# Altium schematic symbol library Schlib1.SchLib: 43 symbols (part 1 of 2)
Pins are listed as number, name and electrical type; pins without a type are passive.

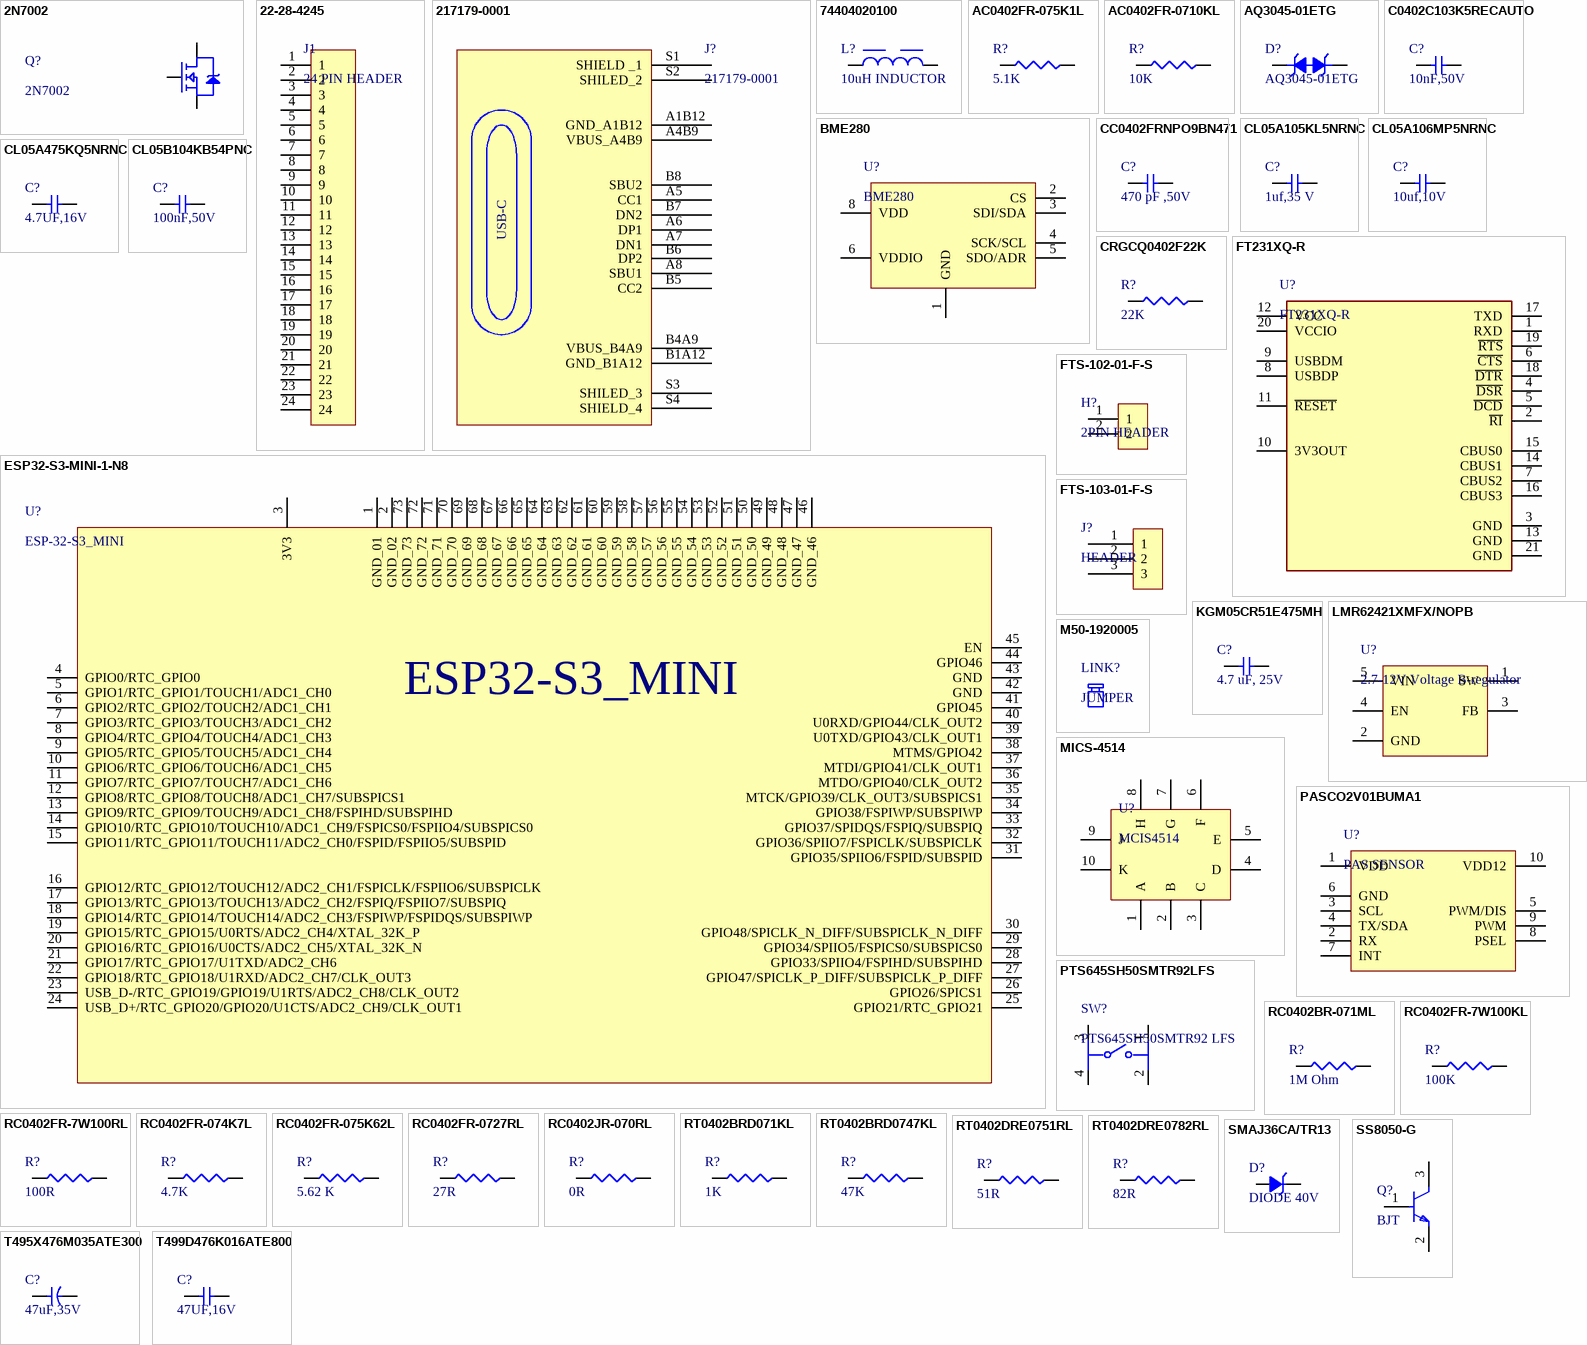
[diagram p0: symbols 2N7002 to T499D476K016ATE800]

## 2N7002
designator Q?
MOSFET SOT23 N 60V 5OHM 150C; Manufacturer: ON Semiconductor / Fairchild; Nominal Vgs: 2.1V; Input Capacitance: 50pF; Max Power Dissipation: 200mW; Rds On Max: 7.5R; Continuous Drain Current (ID): 115mA; On-State Resistance: 5.3R; Gate to Source Voltage (Vgs): 20V; Number of Channels: 1; Turn-Off Delay Time: 20ns; Supplier: Arrow Electronics; Supplier Part Number: 2N7002; Manufacturer Part Number: 2N7002; RoHS: Yes; Category: MOSFETs; Stock: 3060000; Pricing: 3000=0.104, 9000=0.0951, 24000=0.0698, 45000=0.0675, 99000=0.0359 (USD); Mounting Technology: Surface Mount; Case/Package: SOT-23; Pins: 3; Min Operating Temperature: -55°C; Max Operating Temperature: 150°C; Packaging: Tape and Reel; Package Quantity: 1; Dual Supply Voltage: 60V; Drain to Source Voltage (Vdss): 60V; Threshold Voltage: 2.1V; Voltage Rating (DC): 60V; Current Rating: 115mA; Current: 115mA; Voltage: 60V; Series: -; Drain-source On Resistance-Max: 7.5R; Turn-On Delay Time: 20ns; Length: 2.92mm; Width: 1.3mm; Height: 0.93mm; Reach SVHC Compliant: No; Lead Free: Lead Free; RoHS Compliant: Yes; ComponentLink1URL: https://datasheet.ciiva.com/931/2n7000-931762.pdf?src-supplier=Digikey; ComponentLink1Description: https://datasheet.ciiva.com/931/2n7000-931762.pdf?src-supplier=Digikey; ComponentLink2URL: https://datasheet.ciiva.com/931/2n7000-931764.pdf?src-supplier=Digikey; ComponentLink2Description: https://datasheet.ciiva.com/931/2n7000-931764.pdf?src-supplier=Digikey; ComponentLink3URL: https://datasheet.ciiva.com/1188/660093-1188359.pdf?src-supplier=Element14; ComponentLink3Description: https://datasheet.ciiva.com/1188/660093-1188359.pdf?src-supplier=Element14; ComponentLink4URL: https://datasheet.ciiva.com/1188/660093-1188361.pdf?src-supplier=Element14; ComponentLink4Description: https://datasheet.ciiva.com/1188/660093-1188361.pdf?src-supplier=Element14; ComponentLink5URL: https://datasheet.ciiva.com/22655/660093-22655230.pdf?src-supplier=Element14; ComponentLink5Description: https://datasheet.ciiva.com/22655/660093-22655230.pdf?src-supplier=Element14; ComponentLink6URL: https://datasheet.ciiva.com/1254/660093-1254452.pdf?src-supplier=Newark; ComponentLink6Description: https://datasheet.ciiva.com/1254/660093-1254452.pdf?src-supplier=Newark; ComponentLink7URL: https://datasheet.ciiva.com/17007/2n7002-17007243.pdf?src-supplier=Future+Electronics; ComponentLink7Description: https://datasheet.ciiva.com/17007/2n7002-17007243.pdf?src-supplier=Future+Electronics; LCSC PART Number: C22446827
footprint SOT95P240X111-3N
pins: 1, 2, 3

## 22-28-4245
designator J1, comment 24 PIN HEADER
CONN HEADER VERT 24POS 2.54MM; Manufacturer: Molex; Plating: Tin; Current Rating: 4A; Gender: Male; Number of Circuits: 24; Supplier: Mouser; Supplier Part Number: 538-22-28-4245; Manufacturer Part Number: 22-28-4245; RoHS: No; Category: Headers and Wire Housings; Stock: 182; Pricing: 1=1.21, 10=1.14, 50=1.14, 100=1.06, 1000=0.709, 10000=0.709 (USD); Mounting Technology: Through Hole; Contact Material: Brass; Contact Plating: Gold; Housing Color: Black; Number of Contacts: 24; Number of Positions: 24; Number of Rows: 1; Orientation: Vertical; Packaging: Bulk; Termination: Solder; Pitch: 2.54mm; Lead Free: Lead Free; ComponentLink1URL: https://datasheet.ciiva.com/6814/022284363-sd-6814049.pdf?src-supplier=Digikey; ComponentLink1Description: https://datasheet.ciiva.com/6814/022284363-sd-6814049.pdf?src-supplier=Digikey; ComponentLink2URL: https://datasheet.ciiva.com/10075/0022284245-pcb-headers-10075617.pdf?src-supplier=Avnet; ComponentLink2Description: https://datasheet.ciiva.com/10075/0022284245-pcb-headers-10075617.pdf?src-supplier=Avnet; ComponentLink3URL: https://datasheet.ciiva.com/1433/1597854-1433759.pdf?src-supplier=Element14; ComponentLink3Description: https://datasheet.ciiva.com/1433/1597854-1433759.pdf?src-supplier=Element14; LCSC PART Number: C7145888
footprint hdr_1x24
pins: 1, 2, 3, 4, 5, 6, 7, 8, 9, 10, 11, 12, 13, 14, 15, 16, 17, 18, 19, 20, 21, 22, 23, 24

## 217179-0001
designator J?
CONN RCP USB2.0 TYP C 24P SMD RA; Manufacturer: Molex; Current Rating: 1.25A; Gender: Receptacle; Number of Contacts: 16; Voltage Rating: 30V; Supplier: Mouser; Supplier Part Number: 538-217179-0001; Manufacturer Part Number: 217179-0001; RoHS: No; Category: Connectors; Stock: 26428; Pricing: 1=0.79, 10=0.56, 50=0.56, 100=0.513, 1000=0.513, 1200=0.436, 2400=0.41, 4800=0.399, 10000=0.399, 24000=0.39 (USD); Contact Material: Nickel,Gold; Min Operating Temperature: -40°C; Max Operating Temperature: 85°C; USB Standard: USB 2.0; Height: 3.36mm; LCSC PART Number: C3197684
footprint FP-2171790001-MFG
pins: A1B12 GND_A1B12, A4B9 VBUS_A4B9, A5 CC1, A6 DP1, A7 DN1, A8 SBU1, B1A12 GND_B1A12, B4A9 VBUS_B4A9, B5 CC2, B6 DP2, B7 DN2, B8 SBU2, S1 SHIELD _1, S2 SHILED_2, S3 SHILED_3, S4 SHIELD_4
text: USB-C

## 74404020100
designator L?, comment 10uH INDUCTOR
FIXED IND 10UH 500MA 850MOHM SMD; Manufacturer: Wurth Electronics; Manufacturer Part Number: 74404020100; Core Material: Ferrite; Tolerance: 20%; Saturation Current: 600mA; Shielding: Shielded; DC Resistance (DCR): 850mR; Self Resonant Frequency: 39MHz; Test Frequency: 1MHz; Würth Elektronik: 73D1808; Supplier: Digikey; Supplier Part Number: 732-10745-1-ND; RoHS: Yes; Category: Fixed Inductors; Stock: 3411; Pricing: 1=0.54, 50=0.451, 100=0.3429, 1000=0.2979 (USD); Mounting Technology: Surface Mount; Case/Package: Nonstandard; Min Operating Temperature: -40°C; Max Operating Temperature: 125°C; Packaging: Cut Tape; Value: 10uH; Current Rating: 500mA; Series: WE-LQS; Inductance Tolerance: 20%; Length: 2mm; Width: 1.6mm; Height: 1mm; RoHS Compliant: Yes; ComponentLink1URL: http://www.farnell.com/datasheets/2277209.pdf?src-supplier=Farnell; ComponentLink1Description: http://www.farnell.com/datasheets/2277209.pdf?src-supplier=Farnell; ComponentLink2URL: http://www.farnell.com/datasheets/2277209.pdf?src-supplier=Element14; ComponentLink2Description: http://www.farnell.com/datasheets/2277209.pdf?src-supplier=Element14; ComponentLink3URL: https://katalog.we-online.de/pbs/datasheet/74404020100.pdf?src-supplier=Digikey; ComponentLink3Description: https://katalog.we-online.de/pbs/datasheet/74404020100.pdf?src-supplier=Digikey; ComponentLink4URL: http://www.farnell.com/datasheets/2277209.pdf?src-supplier=Newark; ComponentLink4Description: http://www.farnell.com/datasheets/2277209.pdf?src-supplier=Newark
footprint WE-LQS_2010 (SMD Power Inductor, 2-Leads, body 2x1.6mm)
pins: 1, 2

## AC0402FR-075K1L
designator R?, comment 5.1K
RES SMD 5.1K OHM 1% 1/16W 0402; Manufacturer: Yageo; Manufacturer Part Number: AC0402FR-075K1L; Value: 5.1kR; Power Rating: 63mW; Temperature Coefficient: 100ppm/°C; Voltage Rating: 50V; Supplier: Digikey; Supplier Part Number: YAG3503CT-ND; RoHS: Yes; Category: Chip SMD Resistors; Stock: 32155; Pricing: 1=0.1, 10=0.009, 100=0.0071, 1000=0.00612, 2500=0.0051, 5000=0.00407, 10000=0.00204 (USD); Mounting Technology: Surface Mount; Case/Package: 0402; Case Code (Metric): 1005; Case Code (Imperial): 0402; Min Operating Temperature: -55°C; Max Operating Temperature: 155°C; Tolerance: 1%; Packaging: Cut Tape; Number of Terminations: 2; Max Power Dissipation: 63mW; Features: Moisture Resistant,Automotive AEC-Q200; Series: AC; Length: 0.039inch; Width: 0.02inch; Height: 0.015inch; Lead Free: Lead Free; RoHS Compliant: Yes; ComponentLink1URL: http://www.yageo.com/NewPortal/yageodocoutput?fileName=/pdf/R-Chip/PYu-AC_51_RoHS_L_6.pdf&src-supplier=Digikey; ComponentLink1Description: http://www.yageo.com/NewPortal/yageodocoutput?fileName=/pdf/R-Chip/PYu-AC_51_RoHS_L_6.pdf&src-supplier=Digikey; ComponentLink2URL: http://www.yageo.com/documents/recent/PYu-AC_51_RoHS_L_2_revised.pdf?src-supplier=Future+Electronics; ComponentLink2Description: http://www.yageo.com/documents/recent/PYu-AC_51_RoHS_L_2_revised.pdf?src-supplier=Future+Electronics; ComponentLink3URL: https://datasheet.octopart.com/AC0402FR-075K1L-Yageo-datasheet-166720450.pdf?src-supplier=Future+Electronics; ComponentLink3Description: https://datasheet.octopart.com/AC0402FR-075K1L-Yageo-datasheet-166720450.pdf?src-supplier=Future+Electronics; LCSC PART Number: C144745
footprint RESC1005X37N
pins: 1, 2

## AC0402FR-0710KL
designator R?, comment 10K
AC0402FR-0710KL; Manufacturer: Yageo; Value: 10kR; Tolerance: 1%; Power Rating: 62.5mW; Voltage Rating: 50V; Temperature Coefficient: 100ppm/°C; Max Power Dissipation: 63mW; Supplier: Future Electronics; Supplier Part Number: 2025338; Manufacturer Part Number: AC0402FR-0710KL; RoHS: Yes; Category: Chip SMD Resistors; Stock: 16805000; Pricing: 10000=0.0011, 40000=0.0011, 150000=0.001, 400000=0.001, 1000000=0.001 (USD); Case/Package: 0402; Case Code (Imperial): 0402; Case Code (Metric): 1005; Min Operating Temperature: -55°C; Max Operating Temperature: 155°C; Packaging: Tape and Reel; Termination: SMD/SMT; Number of Terminations: 2; Features: Moisture Resistant,Automotive AEC-Q200; Series: AC; Length: 0.039inch; Width: 0.02inch; Height: 0.015inch; Lead Free: Lead Free; RoHS Compliant: Yes; ComponentLink1URL: https://datasheet.ciiva.com/12656/pyu-ac-51-rohs-l-2-12656634.pdf?src-supplier=Mouser; ComponentLink1Description: https://datasheet.ciiva.com/12656/pyu-ac-51-rohs-l-2-12656634.pdf?src-supplier=Mouser; LCSC PART Number: C144807
footprint RESC1005X37N
pins: 1, 2

## AQ3045-01ETG
designator D?
TVS DIODE 5.3VWM 12VC SOD882; Manufacturer: Littelfuse; Number of Bidirectional Channels: 1; Reverse Standoff Voltage: 5.3V; Min Breakdown Voltage: 6.8V; Peak Pulse Current: 3A; Peak Pulse Power: 40W; Power Line Protection: No; Diode Type: ZENER; Leakage Current: 100nA; Supplier: Digikey; Supplier Part Number: F9321CT-ND; Manufacturer Part Number: AQ3045-01ETG; RoHS: Yes; Category: TVS Diodes; Stock: 12123; Pricing: 1=0.46, 10=0.302, 100=0.141, 500=0.134, 1000=0.127, 2000=0.1255, 5000=0.124 (USD); Mounting Technology: Surface Mount; Min Operating Temperature: -55°C; Max Operating Temperature: 150°C; Packaging: Cut Tape; Series: Automotive, AEC-Q101, AQ3045, SPA®; Number of Channels: 1; Operating Supply Voltage: 5.3V; RoHS Compliant: Yes; ComponentLink1URL: http://www.littelfuse.com/~/media/electronics/datasheets/tvs_diode_arrays/littelfuse_tvs_diode_array_aq3045_datasheet.pdf.pdf?src-supplier=Digikey; ComponentLink1Description: http://www.littelfuse.com/~/media/electronics/datasheets/tvs_diode_arrays/littelfuse_tvs_diode_array_aq3045_datasheet.pdf.pdf?src-supplier=Digikey; ComponentLink2URL: https://www.littelfuse.com/~/media/electronics/datasheets/tvs_diode_arrays/littelfuse_tvs_diode_array_aq3045_datasheet.pdf.pdf?src-supplier=Digikey; ComponentLink2Description: https://www.littelfuse.com/~/media/electronics/datasheets/tvs_diode_arrays/littelfuse_tvs_diode_array_aq3045_datasheet.pdf.pdf?src-supplier=Digikey; ComponentLink3URL: https://datasheet.octopart.com/AQ3045-01ETG-Littelfuse-datasheet-101609968.pdf?src-supplier=Farnell; ComponentLink3Description: https://datasheet.octopart.com/AQ3045-01ETG-Littelfuse-datasheet-101609968.pdf?src-supplier=Farnell; ComponentLink4URL: https://datasheet.octopart.com/AQ3045-01ETG-Littelfuse-datasheet-140480283.pdf?src-supplier=Future+Electronics; ComponentLink4Description: https://datasheet.octopart.com/AQ3045-01ETG-Littelfuse-datasheet-140480283.pdf?src-supplier=Future+Electronics; LCSC PART Number: C3710326
footprint DIODFN100X60X50-2N
pins: 1, 2

## BME280
designator U?
SENSOR PRESSURE HUMIDITY TEMP; Manufacturer: Bosch Tools; Supplier: Digikey; Supplier Part Number: 828-1063-1-ND; Manufacturer Part Number: BME280; RoHS: No; Category: Linear ICs; Stock: 15872; Pricing: 1=4.17, 5=3.734, 10=3.573, 25=3.3808, 50=3.2492, 100=3.1285, 500=2.88584, 1000=2.79544, 10000=2.5454 (USD); Case/Package: LGA; Pins: 8; Min Operating Temperature: -40°C; Max Operating Temperature: 85°C; Lead Free: Lead Free; LCSC PART Number: C92489
footprint PSON65P250X250X100-8N
pins: 1 GND, 2 CS, 3 SDI/SDA, 4 SCK/SCL, 5 SDO/ADR, 6 VDDIO, 8 VDD

## C0402C103K5RECAUTO
designator C?, comment 10nF,50V
CAP CER 0402 10NF 50V X7R 10%; Manufacturer: KEMET; Manufacturer Part Number: C0402C103K5RECAUTO; Supplier: Arrow Electronics; Supplier Part Number: C0402C103K5RECAUTO; RoHS: Yes; Category: Ceramic Capacitors; Stock: 2267; Pricing: 1=0.078, 10=0.058, 25=0.054, 100=0.0297, 250=0.0294, 500=0.0291, 1000=0.0175 (USD); Mounting Technology: Surface Mount; Case/Package: 0402; Min Operating Temperature: -55°C; Max Operating Temperature: 125°C; Packaging: Tape and Reel; Value: 10nF; Tolerance: 10%; Voltage Rating: 50V; Series: ESD SMD Auto X7R; Dielectric: X7R; Voltage Rating (DC): 50V; Ratings: AEC-Q200; RoHS Compliant: Yes; ComponentLink1URL: https://datasheet.octopart.com/C0402C103K5RECAUTO-KEMET-datasheet-149521617.pdf?src-supplier=Farnell; ComponentLink1Description: https://datasheet.octopart.com/C0402C103K5RECAUTO-KEMET-datasheet-149521617.pdf?src-supplier=Farnell; ComponentLink2URL: https://api.kemet.com/component-edge/download/datasheet/C0402C103K5RECAUTO.pdf?src-supplier=Digikey; ComponentLink2Description: https://api.kemet.com/component-edge/download/datasheet/C0402C103K5RECAUTO.pdf?src-supplier=Digikey; ComponentLink3URL: https://datasheet.octopart.com/C0402C103K5RECAUTO-KEMET-datasheet-175422754.pdf?src-supplier=Newark; ComponentLink3Description: https://datasheet.octopart.com/C0402C103K5RECAUTO-KEMET-datasheet-175422754.pdf?src-supplier=Newark; ComponentLink4URL: http://www.farnell.com/datasheets/2723677.pdf?src-supplier=Newark; ComponentLink4Description: http://www.farnell.com/datasheets/2723677.pdf?src-supplier=Newark; ComponentLink5URL: http://www.farnell.com/datasheets/2723677.pdf?src-supplier=Element14; ComponentLink5Description: http://www.farnell.com/datasheets/2723677.pdf?src-supplier=Element14; ComponentLink6URL: https://datasheet.octopart.com/C0402C103K5RECAUTO-KEMET-datasheet-153706760.pdf?src-supplier=Electro+Sonic; ComponentLink6Description: https://datasheet.octopart.com/C0402C103K5RECAUTO-KEMET-datasheet-153706760.pdf?src-supplier=Electro+Sonic; LCSC PART Number: C1513170
footprint CAPC1005X55N
pins: 1, 2  2 

## CC0402FRNPO9BN471
designator C?, comment 470 pF ,50V
CAP CER 470PF 50V C0G/NPO 0402; Manufacturer: Yageo; Manufacturer Part Number: CC0402FRNPO9BN471; Supplier: Future Electronics; Supplier Part Number: 5114427; RoHS: Yes; Category: Ceramic Capacitors; Stock: 10000; Pricing: 10000=0.015, 20000=0.0148, 30000=0.0146, 50000=0.0145, 100000=0.0141 (USD); RoHS Compliant: Yes; ComponentLink1URL: https://datasheet.octopart.com/CC0402FRNPO9BN471-Yageo-datasheet-151948684.pdf?src-supplier=Farnell; ComponentLink1Description: https://datasheet.octopart.com/CC0402FRNPO9BN471-Yageo-datasheet-151948684.pdf?src-supplier=Farnell; ComponentLink2URL: https://datasheet.octopart.com/CC0402FRNPO9BN471-Yageo-datasheet-151948684.pdf?src-supplier=Newark; ComponentLink2Description: https://datasheet.octopart.com/CC0402FRNPO9BN471-Yageo-datasheet-151948684.pdf?src-supplier=Newark; ComponentLink3URL: https://datasheet.octopart.com/CC0402FRNPO9BN471-Yageo-datasheet-137875056.pdf?src-supplier=Future+Electronics; ComponentLink3Description: https://datasheet.octopart.com/CC0402FRNPO9BN471-Yageo-datasheet-137875056.pdf?src-supplier=Future+Electronics; LCSC PART Number: C513551
footprint CAPC1005X55N
pins: 1, 2  2 

## CL05A105KL5NRNC
designator C?, comment 1uf,35 V
CL05A105KL5NRNC; Manufacturer: Samsung; Material: 4241ConductorMaterial; Voltage Rating: 35V; Tolerance: 10%; Supplier: Digikey; Supplier Part Number: 1276-6796-1-ND; Manufacturer Part Number: CL05A105KL5NRNC; RoHS: Yes; Category: Ceramic Capacitors; Stock: 194971; Pricing: 1=0.27, 10=0.17, 100=0.1027, 1000=0.07807, 2500=0.06853, 5000=0.0679, 10000=0.05902, 20000=0.05548, 30000=0.05372, 50000=0.05194, 70000=0.04872, 100000=0.04608 (USD); Mounting Technology: Surface Mount; Case/Package: 0402; Case Code (Metric): 1005; Case Code (Imperial): 0402; Min Operating Temperature: -55°C; Max Operating Temperature: 85°C; Packaging: Cut Tape; Value: 1uF; Series: CL; Length: 0.039inch; Width: 0.02inch; Height: 550um; Thickness: 0.022inch; RoHS Compliant: Yes; ComponentLink1URL: http://www.samsungsem.com/kr/support/product-search/mlcc/CL05A105KL5NRNC.jsp?src-supplier=Digikey; ComponentLink1Description: http://www.samsungsem.com/kr/support/product-search/mlcc/CL05A105KL5NRNC.jsp?src-supplier=Digikey; ComponentLink2URL: https://datasheet.octopart.com/CL05A105KL5NRNC-Samsung-datasheet-8326407.pdf?src-supplier=TME; ComponentLink2Description: https://datasheet.octopart.com/CL05A105KL5NRNC-Samsung-datasheet-8326407.pdf?src-supplier=TME; LCSC PART Number: C307413
footprint CAPC1005X55N
pins: 1, 2  2 

## CL05A106MP5NRNC
designator C?, comment 10uf,10V
CL05A106MP5NRNC; Manufacturer: Samsung; Material: Ceramic; Tolerance: 20%; Supplier: Avnet; Supplier Part Number: CL05A106MP5NRNC; Manufacturer Part Number: CL05A106MP5NRNC; RoHS: Yes; Category: Ceramic Capacitors; Pricing: 100000=0.0442, 120000=0.04397, 220000=0.04375, 500000=0.04352, 1000000=0.0433 (USD); Case/Package: 0402; Min Operating Temperature: -55°C; Max Operating Temperature: 85°C; Value: 10uF; Voltage Rating: 10V; Height: 550um; RoHS Compliant: Yes; LCSC PART Number: C315248
footprint CAPC1005X55N
pins: 1, 2  2 

## CL05A475KQ5NRNC
designator C?, comment 4.7UF,16V
CAP CER 4.7UF 6.3V X5R 0402; Manufacturer: Samsung; Manufacturer Part Number: CL05A475KQ5NRNC; Material: Ceramic; Tolerance: 10%; Supplier: Avnet; Supplier Part Number: CL05A475KQ5NRNC; RoHS: Yes; Category: Ceramic Capacitors; Stock: 1403600; Pricing: 1=0.00646 (USD); Mounting Technology: Surface Mount; Case/Package: 0402; Case Code (Metric): 1005; Case Code (Imperial): 0402; Min Operating Temperature: -55°C; Max Operating Temperature: 85°C; Package Quantity: 1; Packaging: Tape and Reel; Value: 4.7uF; Voltage Rating: 6.3V; Dielectric: X5R; Series: CL; Construction: Flat; Length: 1mm; Width: 0.02inch; Height: 0.5mm; Thickness: 0.022inch; Depth: 0.5mm; Radiation Hardening: No; Lead Free: Lead Free; RoHS Compliant: Yes; ComponentLink1URL: https://datasheet.ciiva.com/25793/cl05a475kq5nrnc-25793634.pdf?src-supplier=Digikey; ComponentLink1Description: https://datasheet.ciiva.com/25793/cl05a475kq5nrnc-25793634.pdf?src-supplier=Digikey; ComponentLink2URL: https://datasheet.ciiva.com/26838/getdatasheetpartid-353228-26838196.pdf?src-supplier=Verical; ComponentLink2Description: https://datasheet.ciiva.com/26838/getdatasheetpartid-353228-26838196.pdf?src-supplier=Verical; LCSC PART Number: C2932473
footprint CAPC1005X55N
pins: 1, 2  2 

## CL05B104KB54PNC
designator C?, comment 100nF,50V
CL05B104KB54PNC; Manufacturer: Samsung; Material: 4241ConductorMaterial; Tolerance: 10%; Supplier: Avnet; Supplier Part Number: CL05B104KB54PNC; Manufacturer Part Number: CL05B104KB54PNC; RoHS: Yes; Category: Ceramic Capacitors; Pricing: 10000=0.00428, 20000=0.00423, 40000=0.00747, 60000=0.00411, 80000=0.00406 (USD); Min Operating Temperature: -55°C; Max Operating Temperature: 125°C; Value: 100nF; Voltage Rating: 50V; Height: 550um; RoHS Compliant: Yes; ComponentLink1URL: https://datasheet.octopart.com/CL05B104KB54PNC-Samsung-datasheet-8326407.pdf?src-supplier=TME; ComponentLink1Description: https://datasheet.octopart.com/CL05B104KB54PNC-Samsung-datasheet-8326407.pdf?src-supplier=TME; LCSC PART Number: C307331
footprint CAPC1005X55N
pins: 1, 2  2 

## CRGCQ0402F22K
designator R?, comment 22K
RES 22K OHM 1% 1/16W 0402; Manufacturer: TE Connectivity; Manufacturer Part Number: CRGCQ0402F22K; Max Power Dissipation: 63mW; Temperature Coefficient: 100ppm/°C; Value: 22kR; Power Rating: 62.5mW; Voltage Rating: 50V; Supplier: Avnet; Supplier Part Number: 73AC8868; RoHS: Yes; Category: Chip SMD Resistors; Stock: 20000; Pricing: 1=0.049, 25=0.014, 100=0.007, 250=0.006, 1000=0.005 (USD); Case/Package: 0402; Min Operating Temperature: -55°C; Max Operating Temperature: 155°C; Features: Moisture Resistant,Automotive AEC-Q200; Series: CRGCQ; Tolerance: 1%; Number of Terminations: 2; Packaging: Cut Tape; Voltage Rating (DC): 50V; Operating Supply Voltage: 50V; Height: 400um; Ratings: AEC-Q200; RoHS Compliant: Yes; ComponentLink1URL: http://datasheet.octopart.com/CRGCQ0402F22K-TE-Connectivity-datasheet-114679081.pdf?src-supplier=Digikey; ComponentLink1Description: http://datasheet.octopart.com/CRGCQ0402F22K-TE-Connectivity-datasheet-114679081.pdf?src-supplier=Digikey; ComponentLink2URL: https://4donline.ihs.com/images/VipMasterIC/IC/TYEL/TYEL-S-A0004929575/TYEL-S-A0004929575-1.pdf?hkey=52A5661711E402568146F3353EA87419&src-supplier=Farnell; ComponentLink2Description: https://4donline.ihs.com/images/VipMasterIC/IC/TYEL/TYEL-S-A0004929575/TYEL-S-A0004929575-1.pdf?hkey=52A5661711E402568146F3353EA87419&src-supplier=Farnell; ComponentLink3URL: http://datasheet.octopart.com/CRGCQ0402F22K-TE-Connectivity-datasheet-114679081.pdf?src-supplier=Avnet; ComponentLink3Description: http://datasheet.octopart.com/CRGCQ0402F22K-TE-Connectivity-datasheet-114679081.pdf?src-supplier=Avnet; ComponentLink4URL: http://datasheet.octopart.com/CRGCQ0402F22K-TE-Connectivity-datasheet-114679081.pdf?src-supplier=Mouser; ComponentLink4Description: http://datasheet.octopart.com/CRGCQ0402F22K-TE-Connectivity-datasheet-114679081.pdf?src-supplier=Mouser; ComponentLink5URL: http://datasheet.octopart.com/CRGCQ0402F22K-TE-Connectivity-datasheet-114679081.pdf?src-supplier=Onlinecomponents.com; ComponentLink5Description: http://datasheet.octopart.com/CRGCQ0402F22K-TE-Connectivity-datasheet-114679081.pdf?src-supplier=Onlinecomponents.com; ComponentLink6URL: https://4donline.ihs.com/images/VipMasterIC/IC/TYEL/TYEL-S-A0004929575/TYEL-S-A0004929575-1.pdf?hkey=52A5661711E402568146F3353EA87419&src-supplier=Newark; ComponentLink6Description: https://4donline.ihs.com/images/VipMasterIC/IC/TYEL/TYEL-S-A0004929575/TYEL-S-A0004929575-1.pdf?hkey=52A5661711E402568146F3353EA87419&src-supplier=Newark; ComponentLink7URL: http://datasheet.octopart.com/CRGCQ0402F22K-TE-Connectivity-datasheet-114679081.pdf?src-supplier=Newark; ComponentLink7Description: http://datasheet.octopart.com/CRGCQ0402F22K-TE-Connectivity-datasheet-114679081.pdf?src-supplier=Newark; ComponentLink8URL: http://datasheet.octopart.com/CRGCQ0402F22K-TE-Connectivity-datasheet-114679081.pdf?src-supplier=Heilind+Electronics; ComponentLink8Description: http://datasheet.octopart.com/CRGCQ0402F22K-TE-Connectivity-datasheet-114679081.pdf?src-supplier=Heilind+Electronics; ComponentLink9URL: http://datasheet.octopart.com/CRGCQ0402F22K-TE-Connectivity-datasheet-114679081.pdf?src-supplier=Sager+Electronics; ComponentLink9Description: http://datasheet.octopart.com/CRGCQ0402F22K-TE-Connectivity-datasheet-114679081.pdf?src-supplier=Sager+Electronics; ComponentLink10URL: http://datasheet.octopart.com/CRGCQ0402F22K-TE-Connectivity-datasheet-114679081.pdf?src-supplier=Interstate+Connecting+Components; ComponentLink10Description: http://datasheet.octopart.com/CRGCQ0402F22K-TE-Connectivity-datasheet-114679081.pdf?src-supplier=Interstate+Connecting+Components; ComponentLink11URL: http://datasheet.octopart.com/CRGCQ0402F22K-TE-Connectivity-datasheet-114679081.pdf?src-supplier=Electro+Sonic; ComponentLink11Description: http://datasheet.octopart.com/CRGCQ0402F22K-TE-Connectivity-datasheet-114679081.pdf?src-supplier=Electro+Sonic; ComponentLink12URL: https://datasheet.octopart.com/CRGCQ0402F22K-TE-Connectivity-datasheet-114679081.pdf?src-supplier=Master+Electronics; ComponentLink12Description: https://datasheet.octopart.com/CRGCQ0402F22K-TE-Connectivity-datasheet-114679081.pdf?src-supplier=Master+Electronics; ComponentLink13URL: http://datasheet.octopart.com/CRGCQ0402F22K-TE-Connectivity-datasheet-114679081.pdf?src-supplier=TME; ComponentLink13Description: http://datasheet.octopart.com/CRGCQ0402F22K-TE-Connectivity-datasheet-114679081.pdf?src-supplier=TME; LCSC PART Number: C2073567
footprint RESC1005X37N
pins: 1, 2

## ESP32-S3-MINI-1-N8
designator U?, comment ESP-32-S3_MINI
20.5dBm ESP32-S3FN8 Chip 2.4GHz SMD WiFi Modules ROHS; Manufacturer: Espressif Systems; Manufacturer Part Number: ESP32-S3-MINI-1-N8; Supplier: Digikey; Supplier Part Number: 1965-ESP32-S3-MINI-1-N8CT-ND; RoHS: No; Category: LDO; Stock: 12636; Pricing: 1=5.28, 10=4.566, 25=4.3196, 100=3.9802, 250=3.7768, 650=3.58103, 1300=3.44874, 1950=3.37497 (USD); ComponentLink1URL: https://datasheet.octopart.com/ESP32-S3-MINI-1-N8-Espressif-Systems-datasheet-165560562.pdf?src-supplier=TME; ComponentLink1Description: https://datasheet.octopart.com/ESP32-S3-MINI-1-N8-Espressif-Systems-datasheet-165560562.pdf?src-supplier=TME; LCSC PART Number: C2913206
footprint XCVR_ESP32-S3-MINI-1-N8
pins: 1 GND_01, 2 GND_02, 3 3V3, 4 GPIO0/RTC_GPIO0, 5 GPIO1/RTC_GPIO1/TOUCH1/ADC1_CH0, 6 GPIO2/RTC_GPIO2/TOUCH2/ADC1_CH1, 7 GPIO3/RTC_GPIO3/TOUCH3/ADC1_CH2, 8 GPIO4/RTC_GPIO4/TOUCH4/ADC1_CH3, 9 GPIO5/RTC_GPIO5/TOUCH5/ADC1_CH4, 10 GPIO6/RTC_GPIO6/TOUCH6/ADC1_CH5, 11 GPIO7/RTC_GPIO7/TOUCH7/ADC1_CH6, 12 GPIO8/RTC_GPIO8/TOUCH8/ADC1_CH7/SUBSPICS1, 13 GPIO9/RTC_GPIO9/TOUCH9/ADC1_CH8/FSPIHD/SUBSPIHD, 14 GPIO10/RTC_GPIO10/TOUCH10/ADC1_CH9/FSPICS0/FSPIIO4/SUBSPICS0, 15 GPIO11/RTC_GPIO11/TOUCH11/ADC2_CH0/FSPID/FSPIIO5/SUBSPID, 16 GPIO12/RTC_GPIO12/TOUCH12/ADC2_CH1/FSPICLK/FSPIIO6/SUBSPICLK, 17 GPIO13/RTC_GPIO13/TOUCH13/ADC2_CH2/FSPIQ/FSPIIO7/SUBSPIQ, 18 GPIO14/RTC_GPIO14/TOUCH14/ADC2_CH3/FSPIWP/FSPIDQS/SUBSPIWP, 19 GPIO15/RTC_GPIO15/U0RTS/ADC2_CH4/XTAL_32K_P, 20 GPIO16/RTC_GPIO16/U0CTS/ADC2_CH5/XTAL_32K_N, 21 GPIO17/RTC_GPIO17/U1TXD/ADC2_CH6, 22 GPIO18/RTC_GPIO18/U1RXD/ADC2_CH7/CLK_OUT3, 23 USB_D-/RTC_GPIO19/GPIO19/U1RTS/ADC2_CH8/CLK_OUT2, 24 USB_D+/RTC_GPIO20/GPIO20/U1CTS/ADC2_CH9/CLK_OUT1, 25 GPIO21/RTC_GPIO21, 26 GPIO26/SPICS1, 27 GPIO47/SPICLK_P_DIFF/SUBSPICLK_P_DIFF, 28 GPIO33/SPIIO4/FSPIHD/SUBSPIHD, 29 GPIO34/SPIIO5/FSPICS0/SUBSPICS0, 30 GPIO48/SPICLK_N_DIFF/SUBSPICLK_N_DIFF, 31 GPIO35/SPIIO6/FSPID/SUBSPID, 32 GPIO36/SPIIO7/FSPICLK/SUBSPICLK, 33 GPIO37/SPIDQS/FSPIQ/SUBSPIQ, 34 GPIO38/FSPIWP/SUBSPIWP, 35 MTCK/GPIO39/CLK_OUT3/SUBSPICS1, 36 MTDO/GPIO40/CLK_OUT2, 37 MTDI/GPIO41/CLK_OUT1, 38 MTMS/GPIO42, 39 U0TXD/GPIO43/CLK_OUT1, 40 U0RXD/GPIO44/CLK_OUT2, 41 GPIO45, 42 GND, 43 GND, 44 GPIO46, 45 EN, 46 GND_46, 47 GND_47, 48 GND_48, 49 GND_49, 50 GND_50, 51 GND_51, 52 GND_52, 53 GND_53, 54 GND_54, 55 GND_55, 56 GND_56, 57 GND_57, 58 GND_58, 59 GND_59, 60 GND_60, 61 GND_61, 62 GND_62, 63 GND_63, 64 GND_64, 65 GND_65, 66 GND_66, 67 GND_67, 68 GND_68, 69 GND_69, 70 GND_70, 71 GND_71, 72 GND_72, 73 GND_73
text: ESP32-S3_MINI

## FT231XQ-R
designator U?
IC USB SERIAL FULL UART 20QFN; Manufacturer: FTDI; Data Rate: 12Mbps; Number of Channels: 1; Max Supply Voltage: 5.5V; Min Supply Voltage: 2.97V; Interface: UART,USB; Operating Supply Current: 8mA; Supplier: Digikey; Supplier Part Number: 768-1128-1-ND; Manufacturer Part Number: FT231XQ-R; RoHS: Yes; Category: Interface ICs; Stock: 41705; Pricing: 1=2.34, 25=2.27, 100=2.2, 250=2, 500=1.82002, 1000=1.7625, 5000=1.7625 (USD); Mounting Technology: Surface Mount; Case/Package: QFN; Pins: 20; Weight: 0.004339oz; Min Operating Temperature: -40°C; Max Operating Temperature: 85°C; Packaging: Tape and Reel; Series: USBmadeEZ-UART, FT-X, X-Chip; Height: 800um; Lead Free: Lead Free; RoHS Compliant: Yes; ComponentLink1URL: https://datasheet.ciiva.com/1787/ds-ft231x-1787312.pdf?src-supplier=Digikey; ComponentLink1Description: https://datasheet.ciiva.com/1787/ds-ft231x-1787312.pdf?src-supplier=Digikey; ComponentLink2URL: https://datasheet.ciiva.com/30475/0900766b811020d3-30475405.pdf?src-supplier=Rs; ComponentLink2Description: https://datasheet.ciiva.com/30475/0900766b811020d3-30475405.pdf?src-supplier=Rs; ComponentLink3URL: https://datasheet.ciiva.com/4787/ds-ft231x-13571-4787570.pdf?src-supplier=Mouser; ComponentLink3Description: https://datasheet.ciiva.com/4787/ds-ft231x-13571-4787570.pdf?src-supplier=Mouser; ComponentLink4URL: https://datasheet.ciiva.com/1787/ft-x-series-1787313.pdf?src-supplier=Digikey; ComponentLink4Description: https://datasheet.ciiva.com/1787/ft-x-series-1787313.pdf?src-supplier=Digikey; ComponentLink5URL: https://datasheet.ciiva.com/1787/ft-x-series-1787314.pdf?src-supplier=Digikey; ComponentLink5Description: https://datasheet.ciiva.com/1787/ft-x-series-1787314.pdf?src-supplier=Digikey; LCSC PART Number: C132159
footprint FP-QFN-20-IPC_B
pins: 1 RXD, 2 ~{RI}, 3 GND, 4 ~{DSR}, 5 ~{DCD}, 6 ~{CTS}, 7 CBUS2, 8 USBDP, 9 USBDM, 10 3V3OUT, 11 ~{RESET}, 12 VCC, 13 GND, 14 CBUS1, 15 CBUS0, 16 CBUS3, 17 TXD, 18 ~{DTR}, 19 ~{RTS}, 20 VCCIO, 21 GND

## FTS-102-01-F-S
designator H?, comment 2PIN HEADER
CONN HEADER VERT 2POS 1.27MM; Manufacturer: Samtec; Manufacturer Part Number: FTS-102-01-F-S; Number of Contacts: 2; Gender: Male; Supplier: Avnet; Supplier Part Number: FTS-102-01-F-S; RoHS: Yes; Category: Connectors; Stock: 3208; Pricing: 1=0.4802, 10=0.47775, 30=0.3492, 50=0.3474, 100=0.3456 (USD); Mounting Technology: Through Hole; Contact Plating: Gold; Contact Material: Bronze; Contact Shape: Square; Contact Finish - Mating: GOLD; Insulation Material: Polymer; Insulation Color: Black; Min Operating Temperature: -55°C; Max Operating Temperature: 125°C; Number of Rows: 1; Packaging: Bulk; Termination: Solder; Fastening Type: Pull; Series: FTS; Contact Type: Male Pin; Number of Positions: 2; Pitch: 1.27mm; Radiation Hardening: No; RoHS Compliant: Yes; Flammability Rating: UL94 V-0; ComponentLink1URL: http://suddendocs.samtec.com/catalog_english/fts.pdf?src-supplier=Digikey; ComponentLink1Description: http://suddendocs.samtec.com/catalog_english/fts.pdf?src-supplier=Digikey; ComponentLink2URL: http://www.samtec.com/documents/webfiles/pdf/FTS.pdf?src-supplier=Avnet; ComponentLink2Description: http://www.samtec.com/documents/webfiles/pdf/FTS.pdf?src-supplier=Avnet; ComponentLink3URL: https://datasheet.octopart.com/FTS-102-01-F-S-Samtec-datasheet-151470456.pdf?src-supplier=Sager+Electronics; ComponentLink3Description: https://datasheet.octopart.com/FTS-102-01-F-S-Samtec-datasheet-151470456.pdf?src-supplier=Sager+Electronics; ComponentLink4URL: https://datasheet.octopart.com/FTS-102-01-F-S-Samtec-datasheet-118493358.pdf?src-supplier=Electro+Sonic; ComponentLink4Description: https://datasheet.octopart.com/FTS-102-01-F-S-Samtec-datasheet-118493358.pdf?src-supplier=Electro+Sonic; ComponentLink5URL: https://datasheet.octopart.com/FTS-102-01-F-S-Samtec-datasheet-176663378.pdf?src-supplier=Toby+Electronics; ComponentLink5Description: https://datasheet.octopart.com/FTS-102-01-F-S-Samtec-datasheet-176663378.pdf?src-supplier=Toby+Electronics; LCSC PART Number: C6045317
footprint HDR_1X2-1.27MM
pins: 1, 2

## FTS-103-01-F-S
designator J?, comment HEADER
CONN HEADER VERT 3POS 1.27MM; Manufacturer: Samtec; Manufacturer Part Number: FTS-103-01-F-S; Number of Contacts: 3; Gender: Male; Supplier: Digikey; Supplier Part Number: 612-FTS-103-01-F-S-ND; RoHS: Yes; Category: Connectors; Stock: 1896; Pricing: 1=0.73, 50=0.6378, 100=0.5407, 500=0.4491, 1000=0.38362, 2000=0.31431, 5000=0.2478, 10000=0.228 (USD); Mounting Technology: Through Hole; Contact Plating: Gold; Number of Rows: 1; Packaging: Bulk; Termination: Solder; Pitch: 1.27mm; Radiation Hardening: No; RoHS Compliant: Yes; ComponentLink1URL: http://suddendocs.samtec.com/prints/fts-1xx-xx-xx-xx-xx-mkt.pdf?src-supplier=Digikey; ComponentLink1Description: http://suddendocs.samtec.com/prints/fts-1xx-xx-xx-xx-xx-mkt.pdf?src-supplier=Digikey; ComponentLink2URL: http://www.samtec.com/documents/webfiles/pdf/FTS.pdf?src-supplier=Avnet; ComponentLink2Description: http://www.samtec.com/documents/webfiles/pdf/FTS.pdf?src-supplier=Avnet; ComponentLink3URL: https://datasheet.octopart.com/FTS-103-01-F-S-Samtec-datasheet-176663378.pdf?src-supplier=Toby+Electronics; ComponentLink3Description: https://datasheet.octopart.com/FTS-103-01-F-S-Samtec-datasheet-176663378.pdf?src-supplier=Toby+Electronics; ComponentLink4URL: https://datasheet.octopart.com/FTS-103-01-F-S-Samtec-datasheet-151470456.pdf?src-supplier=Sager+Electronics; ComponentLink4Description: https://datasheet.octopart.com/FTS-103-01-F-S-Samtec-datasheet-151470456.pdf?src-supplier=Sager+Electronics; LCSC PART Number: C3333578
footprint HDR_1X3_1.27mm
pins: 1, 2, 3

## KGM05CR51E475MH
designator C?, comment 4.7 uF, 25V
Cap Cer 4.7UF 25V X5R 0402; Manufacturer: Kyocera AVX; Manufacturer Part Number: KGM05CR51E475MH; Supplier: Digikey; Supplier Part Number: 478-KGM05CR51E475MHCT-ND; RoHS: No; Stock: 57965; Pricing: 1=0.26, 10=0.167, 100=0.1145, 1000=0.08368, 2500=0.07509, 5000=0.0696 (USD); LCSC PART Number: C20218024
footprint CAPC1005X55N
pins: 1, 2  2 

## LMR62421XMFX/NOPB
designator U?, comment 2.7-12V Voltage B-regulator
IC REG BST SEPIC ADJ 2.1A SOT23; Manufacturer: TI National Semiconductor; Manufacturer Part Number: LMR62421XMFX/NOPB; Switching Frequency: 1.6MHz; Output Voltage: 24V; Min Input Voltage: 2.7V; Number of Outputs: 1; Max Supply Voltage: 5.5V; Synchronous Rectifier: No; Quiescent Current: 7mA; Topology: Boost,SEPIC; Output Type: Adjustable; Output Configuration: Positive; Number of Channels: 1NUMBER; Supplier: Mouser; Supplier Part Number: 926-LMR62421XMFXNOPB; RoHS: Yes; Category: Voltage Regulators - Switching; Stock: 3949; Pricing: 1=1.29, 10=0.938, 50=0.85, 100=0.753, 1000=0.627, 10000=0.583 (USD); Mounting Technology: Surface Mount; Case/Package: SOT-23-5; Pins: 5; Min Operating Temperature: -40°C; Max Operating Temperature: 125°C; Output Current: 2.1A; Packaging: Tape and Reel; Package Quantity: 3000; Min Output Voltage: 2.7V; Max Output Voltage: 24V; Series: SIMPLE SWITCHER®; Length: 2.9mm; Width: 1.6mm; Height: 1.45mm; Thickness: 1.2mm; Lead Free: Lead Free; RoHS Compliant: Yes; ComponentLink1URL: https://datasheet.ciiva.com/4880/snvs734a-74088-4880547.pdf?src-supplier=Mouser; ComponentLink1Description: https://datasheet.ciiva.com/4880/snvs734a-74088-4880547.pdf?src-supplier=Mouser; LCSC PART Number: C544413
footprint SOT95P280X145-5N
pins: 1 SW, 2 GND, 3 FB, 4 EN, 5 VIN

## M50-1920005
designator LINK?, comment JUMPER
CONN SHUNT 1.27MM RED; Manufacturer: Harwin; Manufacturer Part Number: M50-1920005; Current Rating: 1A; Voltage Rating: 500V; Insulation Resistance: 1R; Number of Positions: 2; Supplier: Digikey; Supplier Part Number: 952-1727-ND; RoHS: Yes; Category: Headers and Wire Housings; Stock: 2193; Pricing: 1=0.33, 10=0.284, 25=0.2664, 50=0.2536, 100=0.2414, 250=0.22628, 500=0.21546, 1000=0.20516, 3000=0.18984 (USD); Color: Red; Contact Material: Copper Alloy; Contact Plating: Gold; Housing Material: PBT; Min Operating Temperature: -40°C; Max Operating Temperature: 105°C; Package Quantity: 1000; Packaging: Bulk; Series: Archer M50; Pitch: 1.27mm; Reach SVHC Compliant: No; Flammability Rating: UL94 V-0; RoHS Compliant: Yes; ComponentLink1URL: https://datasheet.ciiva.com/4573/m50-19x-350826-4573042.pdf?src-supplier=Mouser; ComponentLink1Description: https://datasheet.ciiva.com/4573/m50-19x-350826-4573042.pdf?src-supplier=Mouser; ComponentLink2URL: https://datasheet.ciiva.com/767/m50-19x-767921.pdf?src-supplier=Digikey; ComponentLink2Description: https://datasheet.ciiva.com/767/m50-19x-767921.pdf?src-supplier=Digikey; ComponentLink3URL: https://datasheet.ciiva.com/1456/m50-19x-1456640.pdf?src-supplier=Newark; ComponentLink3Description: https://datasheet.ciiva.com/1456/m50-19x-1456640.pdf?src-supplier=Newark; ComponentLink4URL: https://datasheet.ciiva.com/1412/1836978-1412125.pdf?src-supplier=Element14; ComponentLink4Description: https://datasheet.ciiva.com/1412/1836978-1412125.pdf?src-supplier=Element14; LCSC PART Number: C6985646

## MICS-4514
designator U?, comment MCIS4514
SENSOR CARBON MONOXIDE; Manufacturer: SGX Sensortech; Supplier: Newark; Supplier Part Number: 71AC1526; Manufacturer Part Number: MICS-4514; RoHS: No; Category: Linear ICs; Stock: 9; Pricing: 1=14.88, 5=14.88, 10=14.88, 25=14.88, 50=13.82, 100=12.9, 250=12.9 (USD); Case/Package: QFN; Min Operating Temperature: -30°C; Max Operating Temperature: 85°C; ComponentLink1URL: https://datasheet.octopart.com/MICS-4514-SGX-Sensortech-datasheet-41926419.pdf?src-supplier=SOS+electronic; ComponentLink1Description: https://datasheet.octopart.com/MICS-4514-SGX-Sensortech-datasheet-41926419.pdf?src-supplier=SOS+electronic; ComponentLink2URL: https://datasheet.octopart.com/MICS-4514-SGX-Sensortech-datasheet-99856667.pdf?src-supplier=Component+Distributors+Inc.; ComponentLink2Description: https://datasheet.octopart.com/MICS-4514-SGX-Sensortech-datasheet-99856667.pdf?src-supplier=Component+Distributors+Inc.; ComponentLink3URL: https://datasheet.octopart.com/MICS-4514-SGX-Sensortech-datasheet-41926419.pdf?src-supplier=Master+Electronics; ComponentLink3Description: https://datasheet.octopart.com/MICS-4514-SGX-Sensortech-datasheet-41926419.pdf?src-supplier=Master+Electronics; LCSC PART Number: C3659364
footprint MICS_10-SMD
pins: 1 A, 2 B, 3 C, 4 D, 5 E, 6 F, 7 G, 8 H, 9 J, 10 K

## PASCO2V01BUMA1
designator U?, comment PAS SENSOR
SENSOR CARBON DIOXIDE I2C OUTPUT; Manufacturer: Infineon; Manufacturer Part Number: PASCO2V01BUMA1; Supplier: Mouser; Supplier Part Number: 726-PASCO2V01BUMA1; RoHS: No; Stock: 274; Pricing: 1=27.8, 10=26.67, 50=25.34, 100=24.46, 1000=23.66, 10000=23.66 (USD); LCSC PART Number: C6352077
footprint PQFN50P300X300X80-16N
pins: 1 VDD, 2 RX, 3 SCL, 4 TX/SDA, 5 PWM/DIS, 6 GND, 7 INT, 8 PSEL, 9 PWM, 10 VDD12

## PTS645SH50SMTR92LFS
designator SW?, comment PTS645SH50SMTR92 LFS
SWITCH TACTILE SPST-NO 0.05A 12V; Manufacturer: ITT C&K; Mechanical Life: 100000Cycles; Actuator Material: Nylon,Polyamide,PA66; Operating Force: 200gf; Throw Configuration: SPST; Current Rating: 50mA; Illumination Type: Non-Illuminated,Illuminated; Switch Function: Off-Mom; Actuator Type: Standard; Contact Resistance: 100mR; Number of Positions: 2; Supplier: Digikey; Supplier Part Number: CKN9085CT-ND; Manufacturer Part Number: PTS645SH50SMTR92LFS; RoHS: Yes; Category: Tactile Switches; Stock: 17094; Pricing: 1=0.33, 10=0.285, 25=0.2692, 100=0.2476, 250=0.23404, 500=0.22418, 1000=0.21467, 2000=0.20552, 3000=0.20033, 5000=0.19395, 7000=0.18986, 10000=0.18561, 25000=0.17508, 50000=0.1675 (USD); Mounting Technology: Surface Mount; Case/Package: SMD/SMT; Contact Plating: Silver; Contact Material: Bronze; Color: Black; Min Operating Temperature: -20°C; Max Operating Temperature: 60°C; Packaging: Tape and Reel; Max Voltage Rating (DC): 12V; Termination: Gull Wing; Voltage Rating (DC): 12V; Package Quantity: 1000; Max Current Rating: 50mA; Orientation: Straight; Series: PTS645; Contact Current Rating: 50mA; Length: 6mm; Depth: 9mm; Reach SVHC Compliant: No; Lead Free: Lead Free; RoHS Compliant: Yes; ComponentLink1URL: https://datasheet.ciiva.com/29903/getdatasheetpartid-773702-29903807.pdf?src-supplier=Verical; ComponentLink1Description: https://datasheet.ciiva.com/29903/getdatasheetpartid-773702-29903807.pdf?src-supplier=Verical; ComponentLink2URL: https://datasheet.ciiva.com/14920/pts645-14920741.pdf?src-supplier=Digikey; ComponentLink2Description: https://datasheet.ciiva.com/14920/pts645-14920741.pdf?src-supplier=Digikey; ComponentLink3URL: https://datasheet.ciiva.com/22637/1707731-22637356.pdf?src-supplier=Element14; ComponentLink3Description: https://datasheet.ciiva.com/22637/1707731-22637356.pdf?src-supplier=Element14; LCSC PART Number: C221869
footprint FP-PTS645SH50SMTR92LFS-MFG
pins: 1, 2, 3, 4

## RC0402BR-071ML
designator R?, comment 1M Ohm
Thick Film Resistors 1 MOhms 1/16W 0402 0.1%; Manufacturer: Yageo; Manufacturer Part Number: RC0402BR-071ML; Value: 1MR; Parameter 1: C5842802; Supplier: Digikey; Supplier Part Number: 13-RC0402BR-071MLCT-ND; RoHS: Yes; Category: Chip SMD Resistors; Stock: 9912; Pricing: 1=0.35, 10=0.138, 100=0.1081, 1000=0.07038, 2500=0.06936, 5000=0.05508 (USD); Case/Package: 0402; Packaging: Tape and Reel; RoHS Compliant: Yes; ComponentLink1URL: https://datasheet.octopart.com/RC0402BR-071ML-Yageo-datasheet-164759695.pdf?src-supplier=Future+Electronics; ComponentLink1Description: https://datasheet.octopart.com/RC0402BR-071ML-Yageo-datasheet-164759695.pdf?src-supplier=Future+Electronics
footprint RESC1005X37N
pins: 1, 2

## RC0402FR-7W100KL
designator R?, comment 100K
RES 100K OHM 1% 1/8W 0402; Manufacturer: Yageo; Manufacturer Part Number: RC0402FR-7W100KL; Value: 100kR; Supplier: Digikey; Supplier Part Number: 13-RC0402FR-7W100KLCT-ND; RoHS: Yes; Category: Chip SMD Resistors; Stock: 9078; Pricing: 1=0.1, 10=0.021, 100=0.0112, 1000=0.00612, 2500=0.0051, 5000=0.00443 (USD); Case/Package: 0402; Packaging: Tape and Reel; RoHS Compliant: Yes; LCSC PART Number: C606167
footprint RESC1005X37N
pins: 1, 2

## RC0402FR-7W100RL
designator R?, comment 100R
RES 100 OHM 1% 1/8W 0402; Manufacturer: Yageo; Manufacturer Part Number: RC0402FR-7W100RL; Supplier: Digikey; Supplier Part Number: 13-RC0402FR-7W100RLCT-ND; RoHS: Yes; Category: Chip SMD Resistors; Stock: 5227; Pricing: 1=0.1, 10=0.013, 100=0.0071, 1000=0.00408, 2500=0.00306 (USD); Case/Package: 343Case; Packaging: 10Packaging; Value: 100R; RoHS Compliant: Yes; ComponentLink1URL: https://datasheet.octopart.com/RC0402FR-7W100RL-Yageo-datasheet-164759695.pdf?src-supplier=Future+Electronics; ComponentLink1Description: https://datasheet.octopart.com/RC0402FR-7W100RL-Yageo-datasheet-164759695.pdf?src-supplier=Future+Electronics; LCSC PART Number: C606168
footprint RESC1005X37N
pins: 1, 2

## RC0402FR-074K7L
designator R?, comment 4.7K
RES 4.7K OHM 1% 1/16W 0402; Manufacturer: Yageo; Manufacturer Part Number: RC0402FR-074K7L; Voltage Rating (DC): 50V; Power Rating: 62.5mW; Value: 4.7kR; Temperature Coefficient: 100ppm/°C; Max Power Dissipation: 63mW; Supplier: Future Electronics; Supplier Part Number: 3795218; RoHS: Yes; Category: Chip SMD Resistors; Stock: 3880000; Pricing: 10000=0.0007, 50000=0.0007, 200000=0.0007, 500000=0.0007, 1250000=0.0006 (USD); Case/Package: 0402; Pins: 2; Case Code (Imperial): 0402; Case Code (Metric): 1005; Min Operating Temperature: -55°C; Max Operating Temperature: 155°C; Tolerance: 1%; Voltage Rating: 50V; Packaging: Tape and Reel; Resistor Type: Thick Film; Termination: SMD/SMT; Features: Moisture Resistant; Series: RC; Number of Terminations: 2; Resistance Tolerance: 1%; Construction: Rectangular; Voltage Rating (AC): 50V; Length: 1mm; Width: 0.5mm; Depth: 0.5mm; Reach SVHC Compliant: No; Military Standard: Not; Lead Free: Lead Free; RoHS Compliant: Yes; ComponentLink1URL: https://datasheet.ciiva.com/7850/1018594-7850022.pdf?src-supplier=Element14; ComponentLink1Description: https://datasheet.ciiva.com/7850/1018594-7850022.pdf?src-supplier=Element14; ComponentLink2URL: https://datasheet.ciiva.com/7850/1018594-7850023.pdf?src-supplier=Element14; ComponentLink2Description: https://datasheet.ciiva.com/7850/1018594-7850023.pdf?src-supplier=Element14; ComponentLink3URL: https://datasheet.ciiva.com/22661/1686128-22661342.pdf?src-supplier=Element14; ComponentLink3Description: https://datasheet.ciiva.com/22661/1686128-22661342.pdf?src-supplier=Element14; LCSC PART Number: C105871
footprint RESC1005X37N
pins: 1, 2

## RC0402FR-075K62L
designator R?, comment 5.62 K
RES 5.62K OHM 1% 1/16W 0402; Manufacturer: Yageo; Manufacturer Part Number: RC0402FR-075K62L; Value: 5.62kR; Power Rating: 62.5mW; Voltage Rating: 50V; Temperature Coefficient: 100ppm/°C; Max Power Dissipation: 63mW; Supplier: Future Electronics; Supplier Part Number: 7854490; RoHS: Yes; Category: Chip SMD Resistors; Stock: 1800000; Pricing: 10000=0.0007, 50000=0.0007, 200000=0.0006, 500000=0.0006, 1250000=0.0006 (USD); Case/Package: 0402; Case Code (Imperial): 0402; Case Code (Metric): 1005; Min Operating Temperature: -55°C; Max Operating Temperature: 155°C; Packaging: Tape and Reel; Tolerance: 1%; Termination: SMD/SMT; Voltage Rating (DC): 50V; Features: Moisture Resistant; Series: RC; Number of Terminations: 2; Construction: Rectangular; Length: 1mm; Depth: 0.5mm; Lead Free: Lead Free; RoHS Compliant: Yes; Military Standard: Not; ComponentLink1URL: https://datasheet.ciiva.com/5558/pyu-rc0402-51-rohs-l-6-r-5558205.pdf?src-supplier=Mouser; ComponentLink1Description: https://datasheet.ciiva.com/5558/pyu-rc0402-51-rohs-l-6-r-5558205.pdf?src-supplier=Mouser; ComponentLink2URL: https://datasheet.ciiva.com/16987/pyu-rc0402-51-rohs-l-6-r-16987189.pdf?src-supplier=Future+Electronics; ComponentLink2Description: https://datasheet.ciiva.com/16987/pyu-rc0402-51-rohs-l-6-r-16987189.pdf?src-supplier=Future+Electronics; LCSC PART Number: C185406
footprint RESC1005X37N
pins: 1, 2

## RC0402FR-0727RL
designator R?, comment 27R
RES 27 OHM 1% 1/16W 0402; Manufacturer: Yageo; Manufacturer Part Number: RC0402FR-0727RL; Power Rating: 62.5mW; Voltage Rating: 50V; Temperature Coefficient: 100ppm/°C; Max Power Dissipation: 63mW; Supplier: Future Electronics; Supplier Part Number: 2577120; RoHS: Yes; Category: Chip SMD Resistors; Stock: 2130000; Pricing: 10000=0.0007, 50000=0.0007, 200000=0.0007, 500000=0.0007, 1250000=0.0006 (USD); Case/Package: 0402; Case Code (Imperial): 0402; Case Code (Metric): 1005; Weight: 2.3E-05oz; Min Operating Temperature: -55°C; Max Operating Temperature: 155°C; Value: 27R; Tolerance: 1%; Packaging: Tape and Reel; Resistor Type: Thick Film; Termination: SMD/SMT; Number of Terminations: 2; Features: Moisture Resistant; Series: RC; Construction: Rectangular; Technology: THICK FILM; Resistance Tolerance: 1%; Voltage Rating (AC): 50V; Length: 1mm; Width: 0.5mm; Height: 0.016inch; Depth: 0.5mm; Military Standard: Not; Lead Free: Lead Free; RoHS Compliant: Yes; Reach SVHC Compliant: Unknown; ComponentLink1URL: https://datasheet.ciiva.com/11808/0900766b80c66297-11808450.pdf?src-supplier=Rs; ComponentLink1Description: https://datasheet.ciiva.com/11808/0900766b80c66297-11808450.pdf?src-supplier=Rs; ComponentLink2URL: https://datasheet.ciiva.com/17044/pyu-rc0402-51-rohs-l-6-17044345.pdf?src-supplier=Future+Electronics; ComponentLink2Description: https://datasheet.ciiva.com/17044/pyu-rc0402-51-rohs-l-6-17044345.pdf?src-supplier=Future+Electronics; ComponentLink3URL: https://datasheet.ciiva.com/15189/getdatasheetpartid-327852-15189402.pdf?src-supplier=Verical; ComponentLink3Description: https://datasheet.ciiva.com/15189/getdatasheetpartid-327852-15189402.pdf?src-supplier=Verical; ComponentLink4URL: https://datasheet.ciiva.com/7849/1018594-7849926.pdf?src-supplier=Element14; ComponentLink4Description: https://datasheet.ciiva.com/7849/1018594-7849926.pdf?src-supplier=Element14; ComponentLink5URL: https://datasheet.ciiva.com/7849/1018594-7849927.pdf?src-supplier=Element14; ComponentLink5Description: https://datasheet.ciiva.com/7849/1018594-7849927.pdf?src-supplier=Element14; LCSC PART Number: C138021
footprint RESC1005X37N
pins: 1, 2

## RC0402JR-070RL
designator R?, comment 0R
RES 0 OHM JUMPER 1/16W 0402; Manufacturer: Yageo; Manufacturer Part Number: RC0402JR-070RL; Value: 0mR; Power Rating: 62.5mW; Tolerance: 5%; Voltage Rating: 50V; Max Power Dissipation: 63mW; Temperature Coefficient: 200ppm/°C; Supplier: Digikey; Supplier Part Number: 311-0.0JRCT-ND; RoHS: Yes; Category: Chip SMD Resistors; Stock: 10747354; Pricing: 1=0.1, 10=0.01, 25=0.0064, 50=0.0054, 100=0.0047, 250=0.00392, 500=0.00346, 1000=0.00304, 5000=0.0023, 10000=0.00206, 20000=0.00185, 30000=0.00175, 50000=0.00163, 70000=0.00155, 100000=0.00148, 250000=0.00133, 500000=0.00123, 1000000=0.00115 (USD); Case/Package: 0402; Case Code (Metric): 1005; Case Code (Imperial): 0402; Contact Plating: Tin,Matte; Min Operating Temperature: -55°C; Max Operating Temperature: 155°C; Package Quantity: 1; Packaging: Tape and Reel; Resistor Type: Thick Film; Number of Terminations: 2; Termination: SMD/SMT; Features: Moisture Resistant; Series: RC; Technology: THICK FILM; Resistance Tolerance: 5%; Construction: Rectangular; Length: 1mm; Width: 0.02inch; Height: 0.016inch; Depth: 0.5mm; Military Standard: Not; Lead Free: Lead Free; RoHS Compliant: Yes; Reach SVHC Compliant: Unknown; ComponentLink1URL: https://datasheet.ciiva.com/2452/pyu-rc0402-51-rohs-l-6-2452608.pdf?src-supplier=Digikey; ComponentLink1Description: https://datasheet.ciiva.com/2452/pyu-rc0402-51-rohs-l-6-2452608.pdf?src-supplier=Digikey; ComponentLink2URL: https://datasheet.ciiva.com/11808/0900766b80c66297-11808195.pdf?src-supplier=Rs; ComponentLink2Description: https://datasheet.ciiva.com/11808/0900766b80c66297-11808195.pdf?src-supplier=Rs; ComponentLink3URL: https://datasheet.ciiva.com/2452/pyu-r-int-thick-7-2452609.pdf?src-supplier=Digikey; ComponentLink3Description: https://datasheet.ciiva.com/2452/pyu-r-int-thick-7-2452609.pdf?src-supplier=Digikey; ComponentLink4URL: https://datasheet.ciiva.com/2452/pyu-r-int-thick-7-2452610.pdf?src-supplier=Digikey; ComponentLink4Description: https://datasheet.ciiva.com/2452/pyu-r-int-thick-7-2452610.pdf?src-supplier=Digikey; ComponentLink5URL: https://datasheet.ciiva.com/8896/pyu-rc0402-51-rohs-l-6-8896201.pdf?src-supplier=Avnet; ComponentLink5Description: https://datasheet.ciiva.com/8896/pyu-rc0402-51-rohs-l-6-8896201.pdf?src-supplier=Avnet; ComponentLink6URL: https://datasheet.ciiva.com/15189/getdatasheetpartid-326379-15189533.pdf?src-supplier=Verical; ComponentLink6Description: https://datasheet.ciiva.com/15189/getdatasheetpartid-326379-15189533.pdf?src-supplier=Verical; ComponentLink7URL: https://datasheet.ciiva.com/7983/1018594-7983535.pdf?src-supplier=Element14; ComponentLink7Description: https://datasheet.ciiva.com/7983/1018594-7983535.pdf?src-supplier=Element14; ComponentLink8URL: https://datasheet.ciiva.com/22747/1018594-22747515.pdf?src-supplier=Element14; ComponentLink8Description: https://datasheet.ciiva.com/22747/1018594-22747515.pdf?src-supplier=Element14; LCSC PART Number: C60485
footprint RESC1005X37N
pins: 1, 2